# EAGLE library part MRF24J40M (library MRF24J40Mx)
MRF24J40Mx
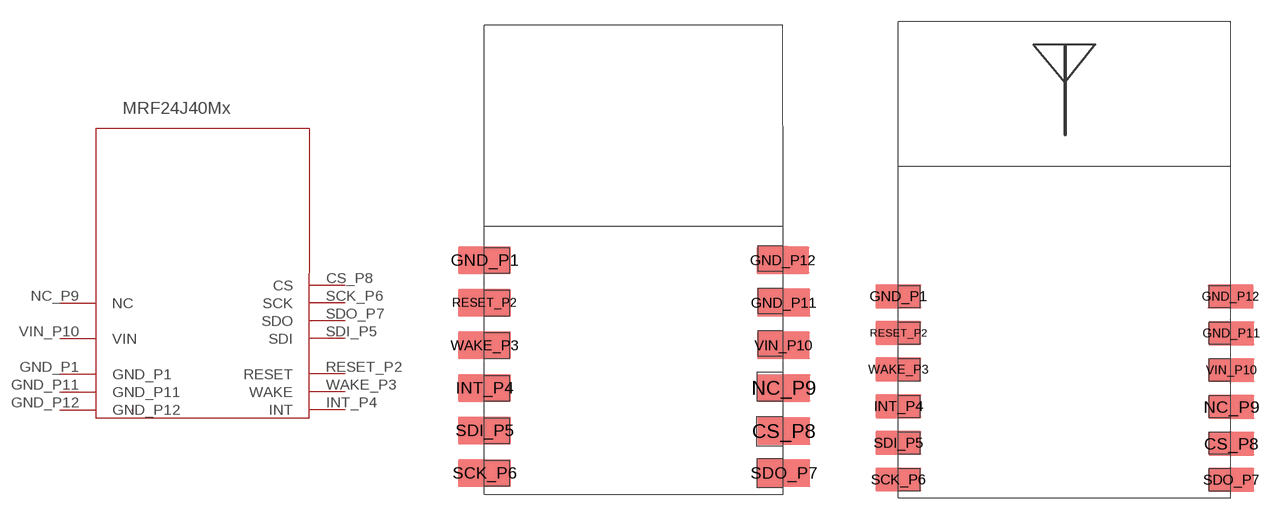
[diagram p0: symbol with the pads of MRF24J40MA; footprints MRF24J40MA, MRF24J40MD]

Designator prefix -

## MRF24J40M  [MRF24J40MA]
CS_P8  CS
GND_P1  GND_P1
GND_P11  GND_P11
GND_P12  GND_P12
INT_P4  INT
NC_P9  NC
RESET_P2  RESET
SCK_P6  SCK
SDI_P5  SDI
SDO_P7  SDO
VIN_P10  VIN
WAKE_P3  WAKE

## MRF24J40MMD  [MRF24J40MD]
Pads as for MRF24J40MA

## Footprint MRF24J40MA (pad centres in mm)
MRF24J40M
smd 3.175 x 1.651: CS_P8 17.84,3.77; GND_P1 0,13.97; GND_P11 17.84,11.43; GND_P12 17.79,13.97; INT_P4 0,6.35; NC_P9 17.84,6.35; RESET_P2 0,11.43; SCK_P6 0,1.27; SDI_P5 0,3.81; SDO_P7 17.84,1.27; VIN_P10 17.82,8.89; WAKE_P3 0,8.89

## Footprint MRF24J40MD (pad centres in mm)
smd 3.175 x 1.651: CS_P8 11.62,-6.41; GND_P1 -11.43,3.81; GND_P11 11.62,1.24; GND_P12 11.57,3.79; INT_P4 -11.43,-3.81; NC_P9 11.62,-3.86; RESET_P2 -11.43,1.27; SCK_P6 -11.43,-8.89; SDI_P5 -11.43,-6.35; SDO_P7 11.62,-8.91; VIN_P10 11.62,-1.31; WAKE_P3 -11.43,-1.27